# Altium footprint library ds1021_1x3sf11_b.PcbLib: 1 footprints
Each footprint in its own frame and in the unit in brackets; x right, y up, seen from the top. Pads: shape width x height; smd on the part's side, far side on the other; paste and mask are expansions set on the pad; w line width, h text height; cw(c..) or ccw(c..) is an arc to the next point about the centre after c.
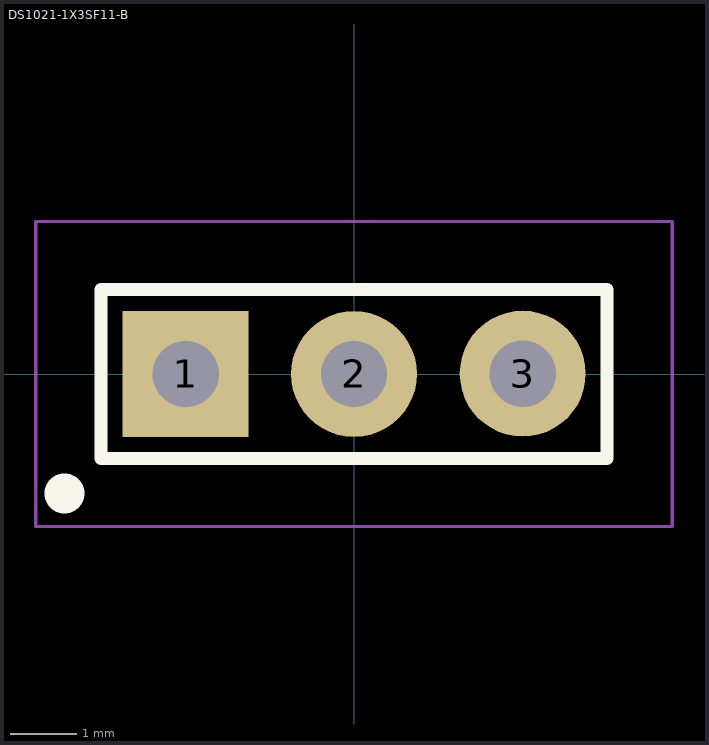
[diagram p0: the footprint, top view; thin cyan lines are the x and y axes]

## DS1021-1X3SF11-B [mm] "PLS 3 Pins 2,54mm Plug Header V/T Type"
height 8.6
pads (3):
  rect 1.9x1.9 hole 1: 1(-2.54,0)
  round 1.9 hole 1: 2(0,0) 3(2.545,0.005)
Top Overlay:
  circle w0.6: c-4.37,-1.8 r0.001
  lines w0.2: -3.815,1.275 -3.815,-1.275 3.815,-1.275 3.815,1.275 -3.81,1.275
Top Comment:
  text ".Comment" at 1.1,2.5 h1.2
Top Designator:
  text ".Designator" at -0.5,2.5 h1.2
Top Component Outline:
  circle w0.35: c-3.065,0.325 r0.15
  lines w0.1: -3.815,-1.275 -3.815,1.275 3.815,1.275 3.815,-1.275 -3.815,-1.275
Top Courtyard (Mech15):
  lines w0.05: -4.8,-2.3 4.8,-2.3 4.8,2.3 -4.8,2.3 -4.8,-2.3
  lines w0.1: -0.5,0 0.5,0 ; 0,-0.5 0,0.5
3D body "DS1021-1x3SF112 (PLS-3).STEP": height 8.59, standoff -2.95, extent -3.81,-1.27 3.81,1.27